# Altium footprint library IC_Diodes_AP3418KTR-G1_eec_MFG.PcbLib: 1 footprints
Each footprint in its own frame and in the unit in brackets; x right, y up, seen from the top. Pads: shape width x height; smd on the part's side, far side on the other; paste and mask are expansions set on the pad; w line width, h text height; cw(c..) or ccw(c..) is an arc to the next point about the centre after c.
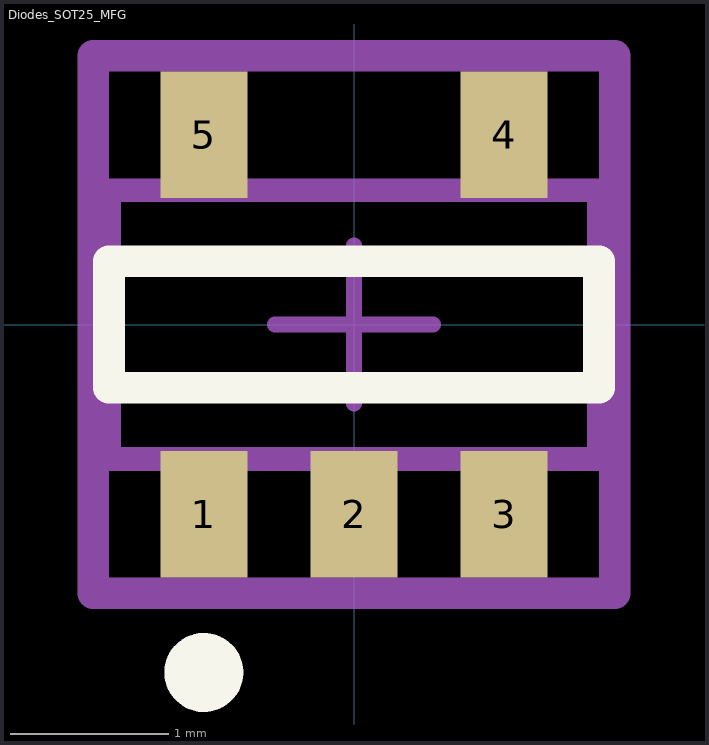
[diagram p0: the footprint, top view; thin cyan lines are the x and y axes]

## Diodes_SOT25_MFG [mm]
pads (5):
  rect 0.55x0.8 smd paste+0 mask+0: 1(-0.95,-1.2) 2(0,-1.2) 3(0.95,-1.2) 4(0.95,1.2) 5(-0.95,1.2)
Top Overlay:
  circle w0.25: c-0.95,-2.2 r0.125
  lines w0.2: -1.55,-0.4 1.55,-0.4 1.55,0.4 -1.55,0.4 -1.55,-0.4
Mechanical 10:
  lines w0.2: -1.65,-1.7 1.65,-1.7 1.65,1.7 -1.65,1.7 -1.65,-1.7
  text ".Designator" at 0,0 h1
Mechanical 12:
  lines w0.15: -1.55,-0.85 1.55,-0.85 1.55,0.85 -1.55,0.85 -1.55,-0.85
Mechanical 15:
  lines w0.1: -0.5,0 0.5,0 ; 0,-0.5 0,0.5
  lines w0.2: -1.65,-1.7 1.65,-1.7 1.65,1.7 -1.65,1.7 -1.65,-1.7
3D body "IC_Diodes_AP3418KTR-G1_eec.STEP": height 0.25, standoff 0, extent -1.65,-1.7 1.65,1.7